# Altium footprint library PCB_ConnectorCable.PcbLib: 60 footprints (part 4 of 4)
Each footprint in its own frame and in the unit in brackets; x right, y up, seen from the top. Pads: shape width x height; smd on the part's side, far side on the other; paste and mask are expansions set on the pad; w line width, h text height; cw(c..) or ccw(c..) is an arc to the next point about the centre after c.
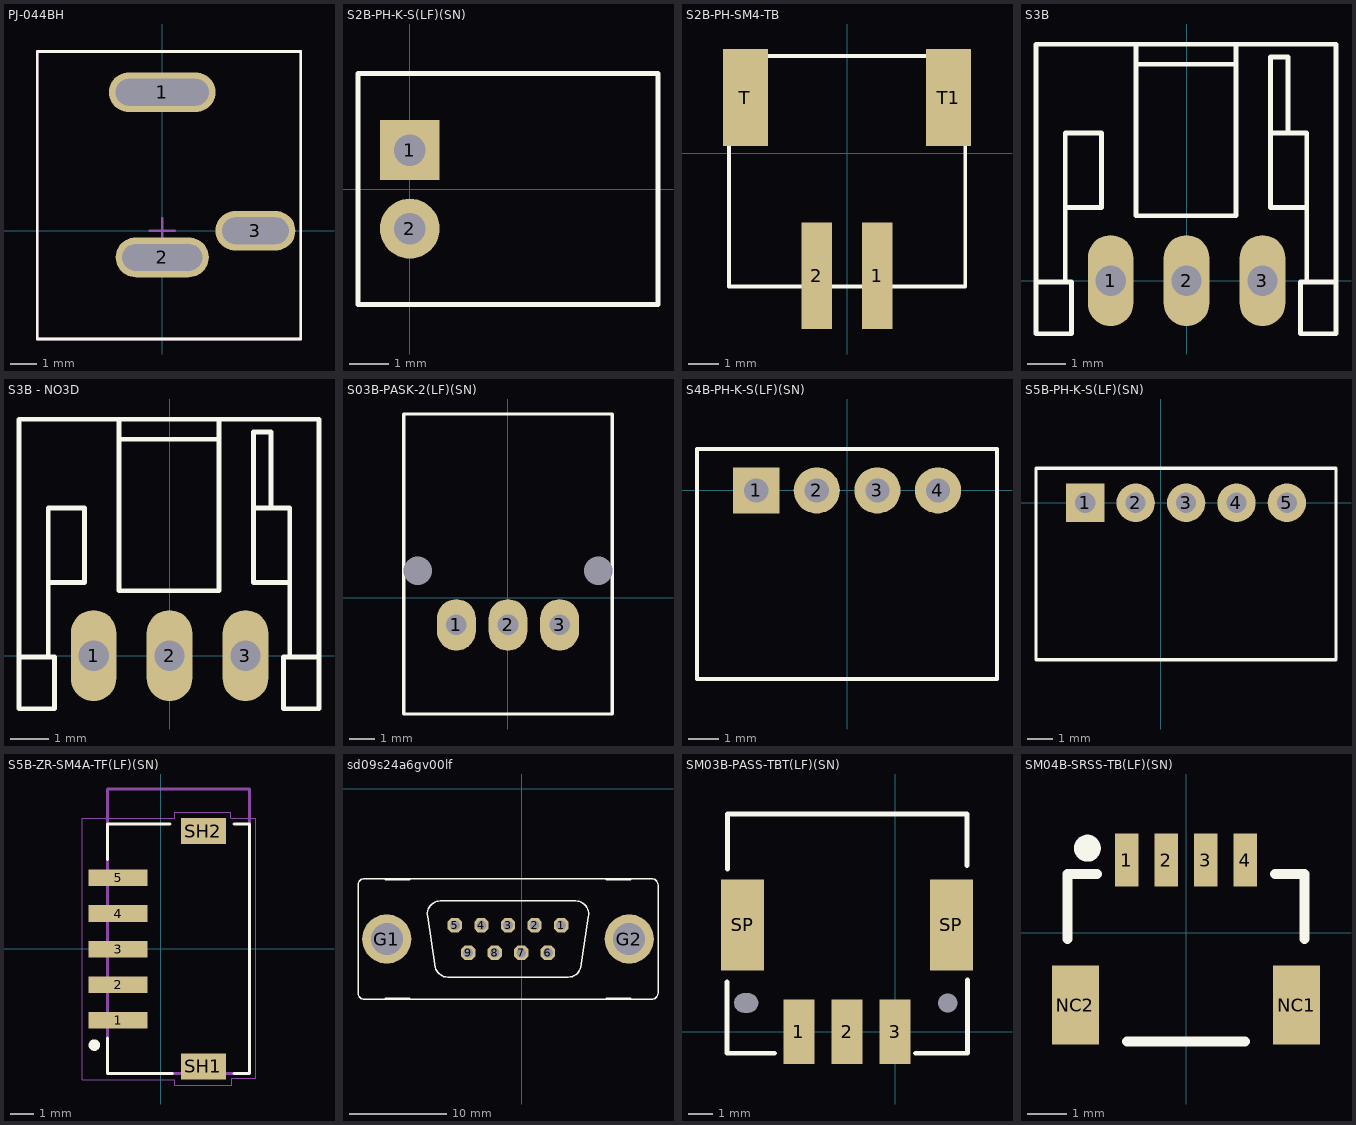
[diagram p3: the footprints below, top view; thin cyan lines are the x and y axes]

## PJ-044BH [mm]
pads (3):
  oval 4x1.5 hole 1 slot 3.5 at 0 deg: 1(0,5.2)
  oval 3.5x1.5 hole 1 slot 3 at 0 deg: 2(0,-1)
  oval 3x1.5 hole 1 slot 2.5 at 0 deg: 3(3.5,0)
Top Overlay:
  lines w0.1: -4.699,-4.064 -4.699,6.731 5.207,6.731 5.207,-4.064 -4.699,-4.064
Mechanical 13:
  lines w0.1: -4.699,-4.064 -4.699,6.731 5.207,6.731 5.207,-4.064 -4.699,-4.064
Mechanical 15:
  lines w0.1: -0.475,0 0.475,0 ; 0,-0.475 0,0.475 ; -4.699,-4.064 -4.699,6.731 5.207,6.731 5.207,-4.064 -4.699,-4.064
  text ".Designator" at -0.635,1.778 h1.02
3D body "pj-044bh.STEP": height 14.2, standoff -3, extent -4.572,-3.976 4.428,7.024

## S2B-PH-K-S(LF)(SN) [mm]
pads (2):
  rect 1.524x1.524 hole 0.8: 1(0,1)
  round 1.524 hole 0.8: 2(0,-1)
Top Overlay:
  lines w0.127: -1.321,-2.937 6.325,-2.937 6.325,2.956 -1.321,2.956 -1.321,-2.937
3D body "S2B-PH-K-S(LF)(SN)--3DModel-STEP-56544.STEP": height 4.8, standoff -3.38, extent -1.321,-2.966 6.279,2.934

## S2B-PH-SM4-TB [mil] "2POS 2MM SMD"
pads (4):
  rect 39.37x137.8 smd: 1(38.76,-158.88) 2(-39.98,-158.88)
  rect 59.06x125.98 smd: T(-132.5,72.5) T1(131.28,72.5)
Top Overlay:
  lines w5: -154,-173 153,-173 153,126.5 -154,126.5 -154,-173
3D body "S2B-PH-SM4-TB.STEP": height 216.54, standoff -3.94, extent -155,-215.29 156.02,123.29

## S3B [mil]
pads (3):
  oval 47.25x94.5 hole 31.5: 1(-78.75,0) 2(-0.01,0) 3(78.75,0)
Top Overlay:
  lines w5: -88.11,75.9 -88.11,153.04 -125.75,153.04 -125.75,75.9 ; -87.81,75.9 -125.75,75.9 ; -52.33,224.36 51.23,224.36 ; -52.33,244.02 -52.33,67.32 51.23,67.32 51.23,245.02 ; -156.06,-1.25 -125.75,-1.25 ; -156.06,-1.25 -156.06,-54.98 -119.33,-54.98 -119.33,-1.25 -125.75,-1.25 ; -156.06,-1.25 -156.06,245.02 154.97,245.02 154.97,-1.25 ; -125.75,-1.25 -125.75,75.9 ; 87,153.04 105.36,153.04 ; 87,153.04 87,231.71 105.36,231.71 105.36,153.04 ; 87,153.04 87,75.9 124.66,75.9 ; 105.36,153.04 124.66,153.04 124.66,75.9 ; 124.66,-1.25 154.97,-1.25 ; 124.66,-1.25 118.22,-1.25 118.22,-54.98 154.97,-54.98 154.97,-1.25 ; 124.66,-1.25 124.66,75.9
3D body "S3B-PH-K-S.STEP": height 189.48, standoff -133.36, extent -155.33,-53.98 155.7,245.23

## S3B - NO3D [mil]
pads (3):
  oval 47.25x94.5 hole 31.5: 1(-78.75,0) 2(-0.01,0) 3(78.75,0)
Top Overlay:
  lines w5: -88.11,75.9 -88.11,153.04 -125.75,153.04 -125.75,75.9 ; -87.81,75.9 -125.75,75.9 ; -52.33,224.36 51.23,224.36 ; -52.33,244.02 -52.33,67.32 51.23,67.32 51.23,245.02 ; -156.06,-1.25 -156.06,245.02 154.97,245.02 154.97,-1.25 ; -156.06,-1.25 -156.06,-54.98 -119.33,-54.98 -119.33,-1.25 -125.75,-1.25 ; -156.06,-1.25 -125.75,-1.25 ; -125.75,-1.25 -125.75,75.9 ; 87,153.04 87,75.9 124.66,75.9 ; 87,153.04 87,231.71 105.36,231.71 105.36,153.04 ; 87,153.04 105.36,153.04 ; 105.36,153.04 124.66,153.04 124.66,75.9 ; 124.66,-1.25 124.66,75.9 ; 124.66,-1.25 118.22,-1.25 118.22,-54.98 154.97,-54.98 154.97,-1.25 ; 124.66,-1.25 154.97,-1.25

## S03B-PASK-2(LF)(SN) [mm]
pads (5):
  oval 1.5x2 hole 0.8: 1(-2,-1.05) 2(0,-1.05) 3(2,-1.05)
  round 0 hole 1.1: SP(-3.5,1.05) SP(3.5,1.05)
Top Overlay:
  lines w0.127: 3.981,-4.504 -4.045,-4.504 -4.045,7.129 3.981,7.129 ; 4.045,-4.504 4.045,7.129
3D body "S03B-PASK-2.STEP": height 6.51, standoff -3.39, extent -4.028,-4.538 3.972,7.162

## S4B-PH-K-S(LF)(SN) [mm]
pads (4):
  rect 1.524x1.524 hole 0.8: 1(-3,0)
  round 1.524 hole 0.8: 2(-1,0) 3(1,0) 4(3,0)
Top Overlay:
  lines w0.127: -4.953,-6.228 4.947,-6.228 4.947,1.372 -4.953,1.372 -4.953,-6.228
3D body "S4B-PH-K-S.STEP": height 4.81, standoff -3.39, extent -4.953,-6.228 4.947,1.372

## S5B-PH-K-S(LF)(SN) [mm]
pads (5):
  rect 1.524x1.524 hole 0.8: 1(-3,0)
  round 1.524 hole 0.8: 2(-1,0) 3(1,0) 4(3,0) 5(5,0)
Top Overlay:
  lines w0.127: -4.953,-6.228 -4.953,1.372 6.947,1.372 6.947,-6.228 -4.953,-6.228
3D body "S5B-PH-K-S.STEP": height 4.81, standoff -3.39, extent -4.953,-6.228 6.947,1.372

## S5B-ZR-SM4A-TF(LF)(SN) [mm]
pads (7):
  rect 2.5x0.7 smd: 1(-1.8,-3.013) 2(-1.8,-1.513) 3(-1.8,-0.013) 4(-1.8,1.487) 5(-1.8,2.987)
  rect 1.9x1.1 smd: SH1(1.8,-4.963) SH2(1.8,4.963)
Top Overlay:
  circle w0.24: c-2.8,-4.063 r0.12
  lines w0.127: -2.25,-5.263 -2.25,-3.763 ; -2.25,3.763 -2.25,5.263 ; -2.2,-5.263 0.5,-5.263 ; -2.2,5.263 0.4,5.263 ; 3.1,-5.263 3.7,-5.263 ; 3.1,5.263 3.7,5.263 ; 3.75,-5.263 3.75,5.263
Mechanical 4:
  lines w0.127: -2.25,-5.263 3.75,-5.263 ; -2.25,-5.263 -2.25,6.737 ; -2.25,-5.263 3.75,-5.263 ; -2.25,-5.263 -2.25,6.737 ; -2.25,6.737 3.75,6.737 ; -2.25,6.737 3.75,6.737 ; 3.75,-5.263 3.75,6.737 ; 3.75,-5.263 3.75,6.737
Mechanical 16:
  lines w0.05: -3.3,-5.513 0.6,-5.513 0.6,-5.763 3,-5.763 3,-5.563 3,-5.463 4,-5.463 4,5.513 2.95,5.513 2.95,5.763 0.6,5.763 0.6,5.513 -3.3,5.513 -3.3,-5.513
3D body "S5B-ZR-SM4A-TF.STEP": height 3.7, standoff 0, extent -2.5,-5.263 4,5.237

## sd09s24a6gv00lf [mil]
pads (11):
  oct 58.09x58.09 hole 40: 1(161,-556) 2(53,-556) 3(-55,-556) 4(-163,-556) 5(-271,-556) 6(107,-668) 7(-1,-668) 8(-109,-668) 9(-217,-668)
  round 200 hole 130: G1(-548,-612) G2(438,-612)
Top Overlay:
  circle w6: c-548,-612 r65
  circle w6: c438,-612 r65
  lines w6: -382,-520 -351,-728 ; -381.97,-520.39 cw(c-330,-510) -330,-457 220,-457 cw(c220,-510.01) 271.79,-521.3 ; -351.3,-727.33 ccw(c-300,-713.99) -300,-767 190,-767 ccw(c189.99,-714) 241.52,-726.37 ; 241,-727 272,-521 ; -555,-857 -555,-852 -455,-852 -455,-857 ; -555,-857 -455,-857 ; -555,-857 -640,-857 cw(c-640,-832) -665,-832 -665,-392 cw(c-640,-392) -640,-367 -555,-367 ; -555,-367 -555,-372 -455,-372 -455,-367 ; -555,-367 -455,-367 ; -455,-857 345,-857 ; -455,-367 345,-367 ; 345,-857 345,-852 445,-852 445,-857 ; 345,-857 445,-857 ; 345,-367 345,-372 445,-372 445,-367 ; 345,-367 445,-367 ; 445,-857 530,-857 ccw(c530,-832) 555,-832 555,-392 ccw(c530,-392) 530,-367 445,-367
3D body "sd09s24a6gv00lf.stp": height 482.78, standoff -125.48, extent -662.24,-859.05 558.24,-364.95

## SM03B-PASS-TBT(LF)(SN) [mm]
pads (7):
  rect 1.3x2.7 smd: 1(-4,0) 2(-2,0) 3(0,0)
  rect 1.8x3.8 smd: SP(-6.35,4.45) SP(2.35,4.45)
  rect 0x0 hole 0.8 slot 1 at 0 deg unplated: SP(-6.2,1.2)
  rect 0x0 hole 0.8 unplated: SP(2.2,1.2)
Top Overlay:
  lines w0.2: -7,2.075 -7,-0.9 -5.025,-0.9 ; -6.975,6.775 -6.975,9.075 -6.925,9.075 3,9.075 3,6.925 ; 0.85,-0.9 3.025,-0.9 3.025,2.15
3D body "SM03B-PASS-1-TB.STEP": height 5.81, standoff -0.39, extent -6.981,-0.901 3.019,9.099

## SM04B-SRSS-TB(LF)(SN) [mm]
pads (6):
  rect 0.6x1.35 smd: 1(-1.5,1.838) 2(-0.5,1.838) 3(0.5,1.838) 4(1.5,1.838)
  rect 1.2x2 smd: NC1(2.8,-1.838) NC2(-2.8,-1.838)
Top Overlay:
  circle w0.4: c-2.5,2.138 r0.141
  lines w0.254: -3,-0.162 -3,1.488 -2.25,1.488 ; -1.5,-2.762 1.5,-2.762 ; 2.25,1.488 3,1.488 3,-0.162
3D body "SM04B-SRSS-TB(LF)(SN)--3DModel-STEP-56544.STEP": height 2.97, standoff 0.01, extent -3,-2.76 3,2.19